# EAGLE library part CARTRIDGE_SOCKET (library atari)
Cartridge Socket
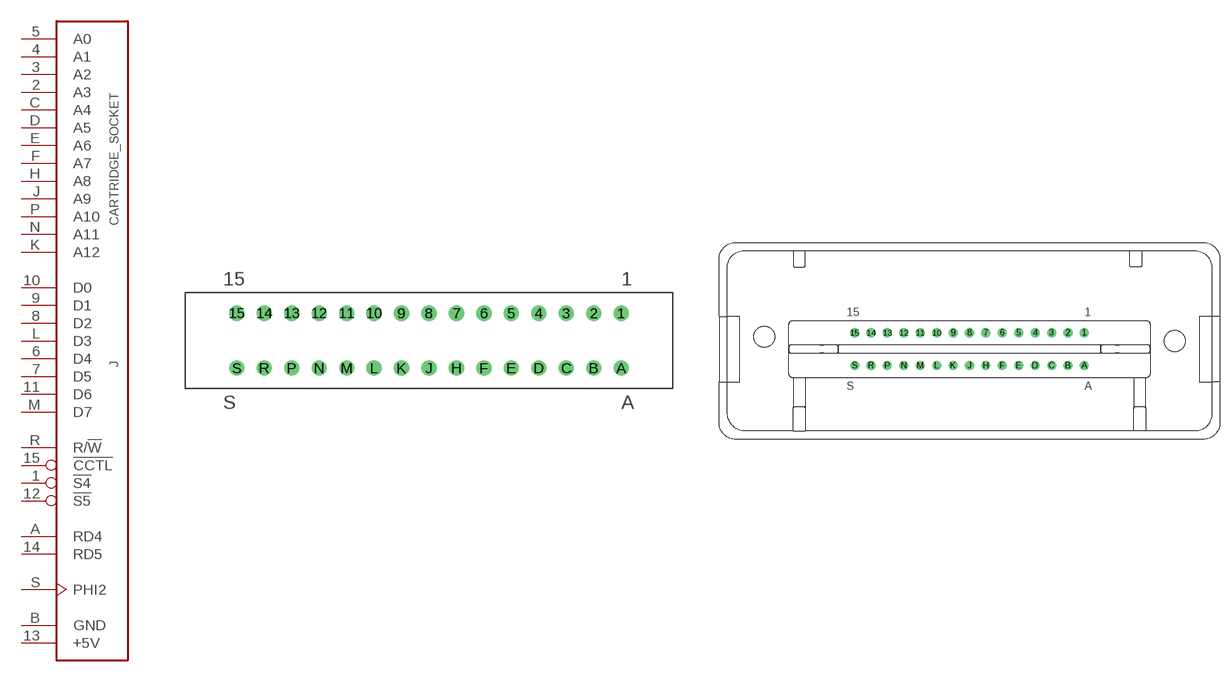
[diagram p23: symbol with the pads of CARTRIDGE_SOCKET; footprints CARTRIDGE_SOCKET, CARTRIDGE_SOCKET_WITH_PLASTIC]

Designator prefix J

## CARTRIDGE_SOCKET_BARE  [CARTRIDGE_SOCKET]
1  !S4  in
2  A3  in
3  A2  in
4  A1  in
5  A0  in
6  D4
7  D5
8  D2
9  D1
10  D0
11  D6
12  !S5  in
13  +5V  pwr
14  RD5  out
15  !CCTL  in
A  RD4  out
B  GND  pwr
C  A4  in
D  A5  in
E  A6  in
F  A7  in
H  A8  in
J  A9  in
K  A12  in
L  D3
M  D7
N  A11  in
P  A10  in
R  R/!W  in
S  PHI2  in

## CARTRIDGE_SOCKET_PLASTIC  [CARTRIDGE_SOCKET_WITH_PLASTIC]
Pads as for CARTRIDGE_SOCKET

## Footprint CARTRIDGE_SOCKET (pad centres in mm)
drill 0.9 round: 1 17.78,2.54; 2 15.24,2.54; 3 12.7,2.54; 4 10.16,2.54; 5 7.62,2.54; 6 5.08,2.54; 7 2.54,2.54; 8 0,2.54; 9 -2.54,2.54; 10 -5.08,2.54; 11 -7.62,2.54; 12 -10.16,2.54; 13 -12.7,2.54; 14 -15.24,2.54; 15 -17.78,2.54; A 17.78,-2.54; B 15.24,-2.54; C 12.7,-2.54; D 10.16,-2.54; E 7.62,-2.54; F 5.08,-2.54; H 2.54,-2.54; J 0,-2.54; K -2.54,-2.54; L -5.08,-2.54; M -7.62,-2.54; N -10.16,-2.54; P -12.7,-2.54; R -15.24,-2.54; S -17.78,-2.54

## Footprint CARTRIDGE_SOCKET_WITH_PLASTIC (pad centres in mm)
drill 0.9 round: 1 17.78,2.54; 2 15.24,2.54; 3 12.7,2.54; 4 10.16,2.54; 5 7.62,2.54; 6 5.08,2.54; 7 2.54,2.54; 8 0,2.54; 9 -2.54,2.54; 10 -5.08,2.54; 11 -7.62,2.54; 12 -10.16,2.54; 13 -12.7,2.54; 14 -15.24,2.54; 15 -17.78,2.54; A 17.78,-2.54; B 15.24,-2.54; C 12.7,-2.54; D 10.16,-2.54; E 7.62,-2.54; F 5.08,-2.54; H 2.54,-2.54; J 0,-2.54; K -2.54,-2.54; L -5.08,-2.54; M -7.62,-2.54; N -10.16,-2.54; P -12.7,-2.54; R -15.24,-2.54; S -17.78,-2.54
hole 3.2 at -31.75,1.905
hole 3.2 at 31.75,1.27